# Altium schematic symbol library RTL8723DS-CG.SchLib: 1 symbol
Pins are listed as number, name and electrical type; pins without a type are passive.

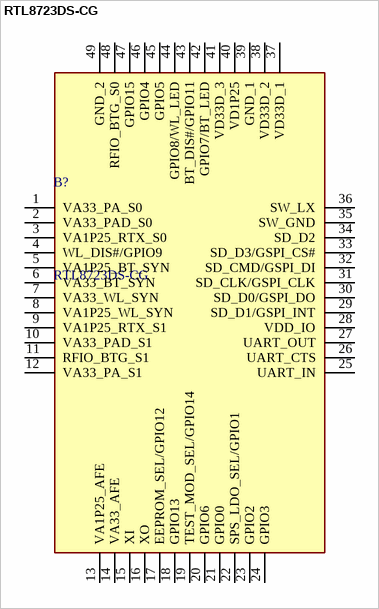
[diagram p0: symbol RTL8723DS-CG]

## RTL8723DS-CG
designator B?
WQFN-48-EP(6x6) RF Transceiver ICs ROHS; Manufacturer_Name: Realtek; Geometry.Height: 1mm; Manufacturer_Part_Number: RTL8723DS-CG; Mouser Part Number: *; Mouser Price/Stock: *; Arrow Part Number: *; Arrow Price/Stock: *; Datasheet Link: https://mangopi.org/_media/rtl8723ds-cg_datasheet_0.92_20170804.pdf
footprint QFN40P600X600X100-49N
pins: 1 VA33_PA_S0, 2 VA33_PAD_S0, 3 VA1P25_RTX_S0, 4 WL_DIS#/GPIO9, 5 VA1P25_BT_SYN, 6 VA33_BT_SYN, 7 VA33_WL_SYN, 8 VA1P25_WL_SYN, 9 VA1P25_RTX_S1, 10 VA33_PAD_S1, 11 RFIO_BTG_S1, 12 VA33_PA_S1, 13 VA1P25_AFE, 14 VA33_AFE, 15 XI, 16 XO, 17 EEPROM_SEL/GPIO12, 18 GPIO13, 19 TEST_MOD_SEL/GPIO14, 20 GPIO6, 21 GPIO0, 22 SPS_LDO_SEL/GPIO1, 23 GPIO2, 24 GPIO3, 25 UART_IN, 26 UART_CTS, 27 UART_OUT, 28 VDD_IO, 29 SD_D1/GSPI_INT, 30 SD_D0/GSPI_DO, 31 SD_CLK/GSPI_CLK, 32 SD_CMD/GSPI_DI, 33 SD_D3/GSPI_CS#, 34 SD_D2, 35 SW_GND, 36 SW_LX, 37 VD33D_1, 38 VD33D_2, 39 GND_1, 40 VD1P25, 41 VD33D_3, 42 GPIO7/BT_LED, 43 BT_DIS#/GPIO11, 44 GPIO8/WL_LED, 45 GPIO5, 46 GPIO4, 47 GPIO15, 48 RFIO_BTG_S0, 49 GND_2